# Altium footprint library QuadCape_4L_PCB1.PcbLib: 9 footprints
Each footprint in its own frame and in the unit in brackets; x right, y up, seen from the top. Pads: shape width x height; smd on the part's side, far side on the other; paste and mask are expansions set on the pad; w line width, h text height; cw(c..) or ccw(c..) is an arc to the next point about the centre after c.
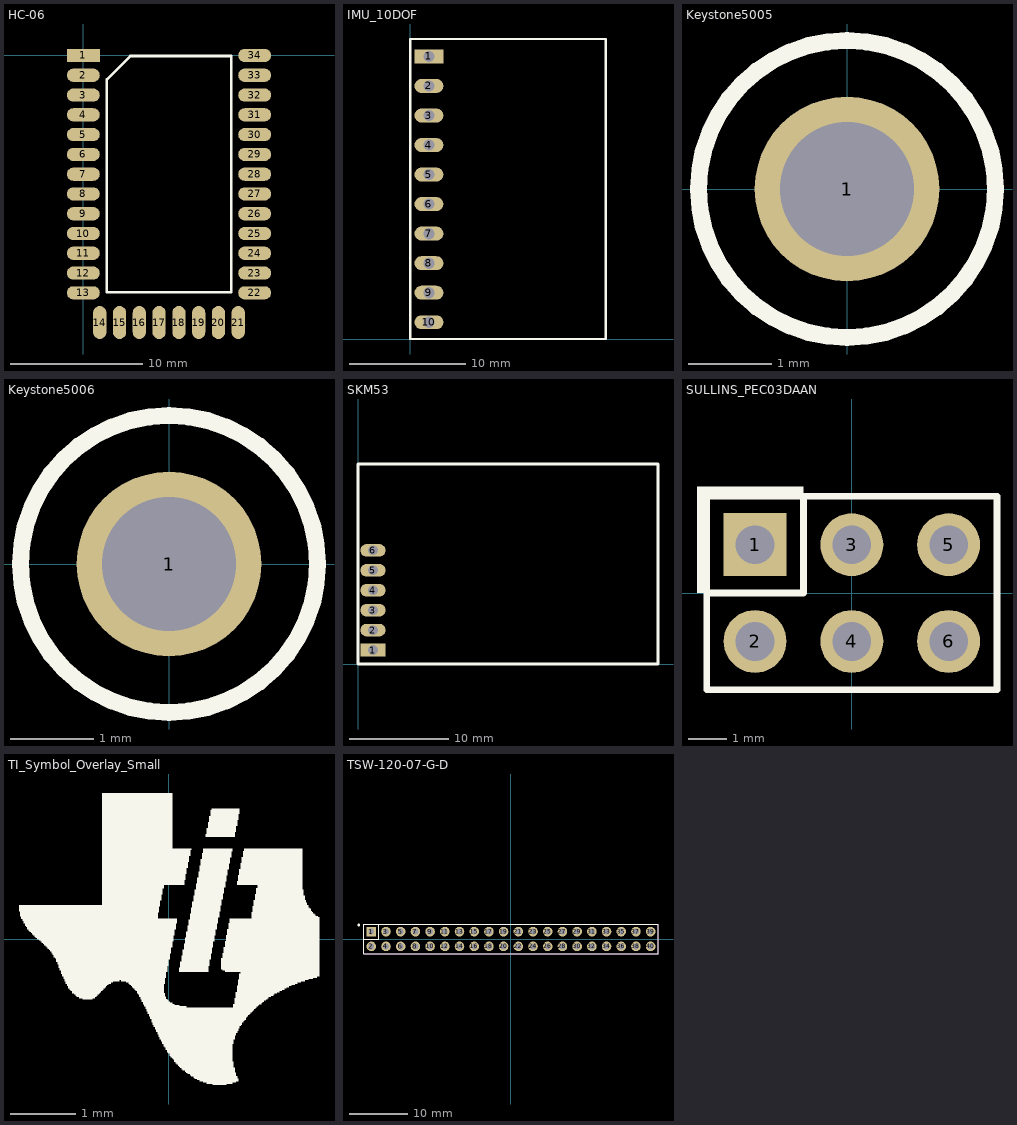
[diagram p0: the footprints below, top view; thin cyan lines are the x and y axes]

## HC-06 [mm]
pads (34):
  rect 2.5x1 smd: 1(0,0)
  oval 2.5x1 smd: 2(0,-1.5) 3(0,-3) 4(0,-4.5) 5(0,-6) 6(0,-7.5) 7(0,-9) 8(0,-10.5) 9(0,-12) 10(0,-13.5) 11(0,-15) 12(0,-16.5) 13(0,-18) 22(13,-18) 23(13,-16.5) 24(13,-15) 25(13,-13.5) 26(13,-12) 27(13,-10.5) 28(13,-9) 29(13,-7.5) 30(13,-6) 31(13,-4.5) 32(13,-3) 33(13,-1.5) 34(13,0)
  oval 1x2.5 smd: 14(1.25,-20.25) 15(2.75,-20.25) 16(4.25,-20.25) 17(5.75,-20.25) 18(7.25,-20.25) 19(8.75,-20.25) 20(10.25,-20.25) 21(11.75,-20.25)
Top Overlay:
  lines w0.2: 1.785,-17.965 11.215,-17.965 11.215,-0.035 3.57,-0.035 1.785,-1.82 1.785,-17.965

## IMU_10DOF [mm]
pads (10):
  rect 2.5x1.2 hole 0.966: 1(1.6,24.3)
  oval 2.5x1.2 hole 0.966: 2(1.6,21.76) 3(1.6,19.22) 4(1.6,16.68) 5(1.6,14.14) 6(1.6,11.6) 7(1.6,9.06) 8(1.6,6.52) 9(1.6,3.98) 10(1.6,1.44)
Top Overlay:
  lines w0.2: 0,0 0,25.8 16.8,25.8 16.8,0 0,0

## Keystone5005 [mil] "Keystone Compact loops"
height 220
pads (1):
  round 87 hole 63: 1(0,0)
Top Overlay:
  circle w7.99: c0,0 r70
Mechanical 5:
  circle w5: c0,0 r70.71
  text ".Designator" at -55,-15 h30
3D body: height 225.2, standoff -129.92, extent -63,-63 62.49,62.74

## Keystone5006 [mil] "Keystone Compact loops"
height 220
pads (1):
  round 87 hole 63: 1(0,0)
Top Overlay:
  circle w7.99: c0,0 r70
Mechanical 5:
  circle w5: c0,0 r70.71
  text ".Designator" at -55,-15 h30
3D body: height 225.2, standoff -129.92, extent -63,-63 62.49,62.74

## PCBComponent_1 [mm]

## SKM53 [mm] "GPS Module"
height 8
pads (6):
  rect 2.54x1.27 hole 0.966: 1(1.5,1.4)
  oval 2.54x1.27 hole 0.966: 2(1.5,3.4) 3(1.5,5.4) 4(1.5,7.4) 5(1.5,9.4) 6(1.5,11.4)
Top Overlay:
  lines w0.254: 0,0 0,20.066 30.099,20.066 30.099,0 0,0

## SULLINS_PEC03DAAN [mm] "SULLINS"
height 8.382
pads (6):
  rect 1.65x1.65 hole 1.016 mask+0: 1(-2.54,1.27)
  round 1.65 hole 1.016 mask+0: 2(-2.54,-1.27) 3(0,1.27) 4(0,-1.27) 5(2.54,1.27) 6(2.54,-1.27)
Top Overlay:
  region: -1.27,2.54 -1.27,2.794 -4.064,2.794 -4.064,2.54
  rectangle: -4.064,0 -3.81,2.629
  lines w0.178: -3.81,0 -1.27,0 -1.27,2.54 ; -3.81,-2.54 -3.81,2.54 3.81,2.54 3.81,-2.54 -3.81,-2.54
Mechanical 5:
  rectangle: -3.048,0.762 -2.032,1.778
  lines w0.076: -3.81,-2.54 -3.81,2.54 3.81,2.54 3.81,-2.54 -3.81,-2.54
  lines w0.127: -3.81,-2.54 3.81,-2.54 3.81,2.54 -3.81,2.54 -3.81,-2.54
  text ".Designator" at -1.778,0.508 h1.02
3D body: height 2.54, standoff 0, extent -3.809,-2.539 3.809,2.539
3D body: height 8.38, standoff -3.05, extent 2.223,-1.588 2.858,-0.953
3D body: height 8.38, standoff -3.05, extent 2.223,0.952 2.858,1.587
3D body: height 8.38, standoff -3.05, extent -0.317,0.952 0.318,1.587
3D body: height 8.38, standoff -3.05, extent -0.317,-1.588 0.318,-0.953
3D body: height 8.38, standoff -3.05, extent -2.857,-1.588 -2.222,-0.953
3D body: height 8.38, standoff -3.05, extent -2.857,0.952 -2.222,1.587

## TI_Symbol_Overlay_Small [mm]
Top Overlay:
  drawing of 3 lines, arcs and shapes, not listed

## TSW-120-07-G-D [mm] "Samtec 100mil, 2x20, 230 mil above insulator"
height 8.382
pads (40):
  rect 1.65x1.65 hole 1.016 mask+0: 1(-24.13,1.27)
  round 1.65 hole 1.016 mask+0: 2(-24.13,-1.27) 3(-21.59,1.27) 4(-21.59,-1.27) 5(-19.05,1.27) 6(-19.05,-1.27) 7(-16.51,1.27) 8(-16.51,-1.27) 9(-13.97,1.27) 10(-13.97,-1.27) 11(-11.43,1.27) 12(-11.43,-1.27) 13(-8.89,1.27) 14(-8.89,-1.27) 15(-6.35,1.27) 16(-6.35,-1.27) 17(-3.81,1.27) 18(-3.81,-1.27) 19(-1.27,1.27) 20(-1.27,-1.27) 21(1.27,1.27) 22(1.27,-1.27) 23(3.81,1.27) 24(3.81,-1.27) 25(6.35,1.27) 26(6.35,-1.27) 27(8.89,1.27) 28(8.89,-1.27) 29(11.43,1.27) 30(11.43,-1.27) 31(13.97,1.27) 32(13.97,-1.27) 33(16.51,1.27) 34(16.51,-1.27) 35(19.05,1.27) 36(19.05,-1.27) 37(21.59,1.27) 38(21.59,-1.27) 39(24.13,1.27) 40(24.13,-1.27)
Top Overlay:
  circle w0.25: c-26.3,2.4 r0.125
  lines w0.178: -25.4,0 -22.86,0 -22.86,2.54 ; -25.4,-2.54 25.4,-2.54 25.4,2.54 -25.4,2.54 -25.4,-2.54
Mechanical 5:
  rectangle: -24.638,0.762 -23.622,1.778
  lines w0.127: -25.4,-2.54 -25.4,2.54 25.4,2.54 25.4,-2.54 -25.4,-2.54
  text ".Designator" at -1.524,0.508 h1.02
3D body: height 8.38, standoff -2.54, extent -25.4,0 25.4,5.08